# EAGLE library part CONN,1X16 (library QuantumOptics)
Connector, 16-pin, such as FPC/FFC Hirose FH12-16S-1SV(55).
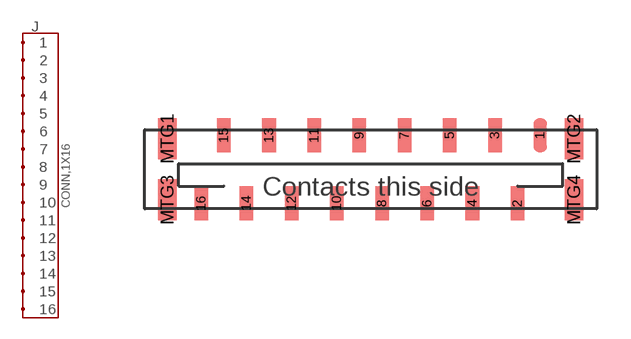
[diagram p188: symbol with the pads of CONN,FPC-FFC,1MM,16-POS; footprint CONN,FPC-FFC,1MM,16-POS]

Designator prefix J

## CONN,1X16-SULLINS_FH12-16S-1SV(55)  [CONN,FPC-FFC,1MM,16-POS]
1  1
2  2
3  3
4  4
5  5
6  6
7  7
8  8
9  9
10  10
11  11
12  12
13  13
14  14
15  15
16  16

## Footprint CONN,FPC-FFC,1MM,16-POS (pad centres in mm)
Connector for FFC/FPC cables, 1mm, 16-position, SMT, such as Hirose FH12-16S-1SV(55).
smd 0.6 x 1.5: 1 7.5,3; 2 6.5,0; 3 5.5,3; 4 4.5,0; 5 3.5,3; 6 2.5,0; 7 1.5,3; 8 0.5,0; 9 -0.5,3; 10 -1.5,0; 11 -2.5,3; 12 -3.5,0; 13 -4.5,3; 14 -5.5,0; 15 -6.5,3; 16 -7.5,0
smd 0.8 x 1.8: MTG1 -9,2.85; MTG2 9,2.85; MTG3 -9,0.15; MTG4 9,0.15